# Altium schematic symbol library RES,470k,0.1%,0.1W,0402.Schlib: 1 symbol
Pins are listed as number, name and electrical type; pins without a type are passive.

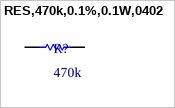
[diagram p0: symbol RES,470k,0.1%,0.1W,0402]

## RES,470k,0.1%,0.1W,0402
designator R?, comment 470k
470 kOhms ±0.1% 0.1W, 1/10W Chip Resistor 0402 (1005 Metric) Anti-Sulfur, Automotive AEC-Q200 Thin Film
pins: 1, 2